# Altium schematic symbol library headerSchematicLibrary.SchLib: 4 symbols
Pins are listed as number, name and electrical type; pins without a type are passive.

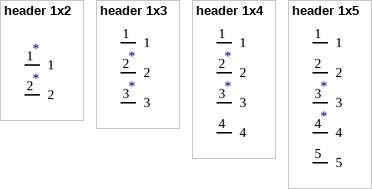
[diagram p0: symbols header 1x2 to header 1x5]

## header 1x2
designator *
footprint header 1x2
pins: 1, 2

## header 1x3
designator *
footprint header 1x3
pins: 1, 2, 3

## header 1x4
designator *
footprint header 1x4
pins: 1, 2, 3, 4

## header 1x5
designator *
footprint header 1x5
pins: 1, 2, 3, 4, 5